# EAGLE library part ESP32-C3_SOC (library ESP32-C3-MINI-1)
ESP32-C3 ESP32-C3 is a single-core Wi-Fi and Bluetooth 5 (LE) microcontroller SoC, based on the open-source RISC-V architecture. It strikes the right balance of power, I/O capabilities and security, thus offering the optimal cost-effective solution for connected devices. The availability of Wi-Fi and Bluetooth 5 (LE) connectivity not only makes the device's configuration easy, but it also facilitates a variety of use-cases based on dual connectivity.
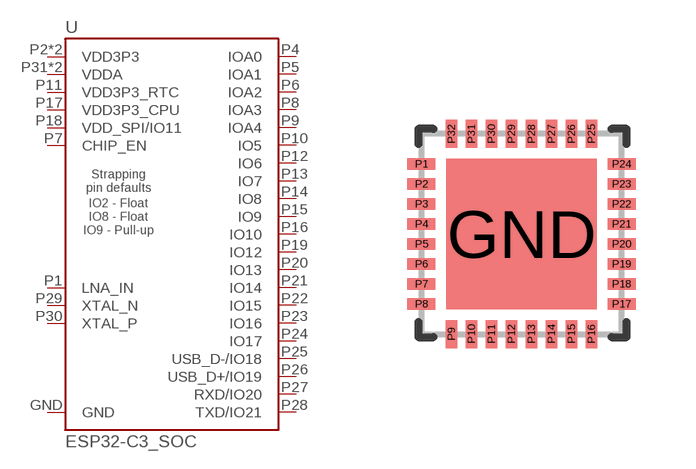
[diagram p0: symbol with the pads of QFN32; footprint QFN32]

Designator prefix U

## ESP32-C3_SOC  [QFN32]
GND  GND
P1  LNA_IN
P2  VDD3P3
P3  VDD3P3
P4  IOA0
P5  IOA1
P6  IOA2
P7  CHIP_EN
P8  IOA3
P9  IOA4
P10  IO5
P11  VDD3P3_RTC
P12  IO6
P13  IO7
P14  IO8
P15  IO9
P16  IO10
P17  VDD3P3_CPU
P18  VDD_SPI/IO11
P19  IO12
P20  IO13
P21  IO14
P22  IO15
P23  IO16
P24  IO17
P25  USB_D-/IO18
P26  USB_D+/IO19
P27  RXD/IO20
P28  TXD/IO21
P29  XTAL_N
P30  XTAL_P
P31  VDDA
P32  VDDA

## Footprint QFN32 (pad centres in mm)
QFN32 Mechanical Specifications: Pad Size: .1mm x .1mm Pin count: 32 Pin pitch: .5mm Package Size: 5mm x 5mm Datasheet referenced for footprint <https://www.espressif.com/sites/default/files/documentation/esp32-c3_datasheet_en.pdf>
smd 3.75 x 3.75: GND 0,0
smd 0.7 x 0.28: P1 -2.5,1.75; P2 -2.5,1.25; P3 -2.5,0.75; P4 -2.5,0.25; P5 -2.5,-0.25; P6 -2.5,-0.75; P7 -2.5,-1.25; P8 -2.5,-1.75; P17 2.5,-1.75; P18 2.5,-1.25; P19 2.5,-0.75; P20 2.5,-0.25; P21 2.5,0.25; P22 2.5,0.75; P23 2.5,1.25; P24 2.5,1.75
smd 0.28 x 0.7: P9 -1.75,-2.5; P10 -1.25,-2.5; P11 -0.75,-2.5; P12 -0.25,-2.5; P13 0.25,-2.5; P14 0.75,-2.5; P15 1.25,-2.5; P16 1.75,-2.5; P25 1.75,2.5; P26 1.25,2.5; P27 0.75,2.5; P28 0.25,2.5; P29 -0.25,2.5; P30 -0.75,2.5; P31 -1.25,2.5; P32 -1.75,2.5